# Altium footprint library Inductor_SMD.PcbLib: 259 footprints (part 4 of 17)
Each footprint in its own frame and in the unit in brackets; x right, y up, seen from the top. Pads: shape width x height; smd on the part's side, far side on the other; paste and mask are expansions set on the pad; w line width, h text height; cw(c..) or ccw(c..) is an arc to the next point about the centre after c.
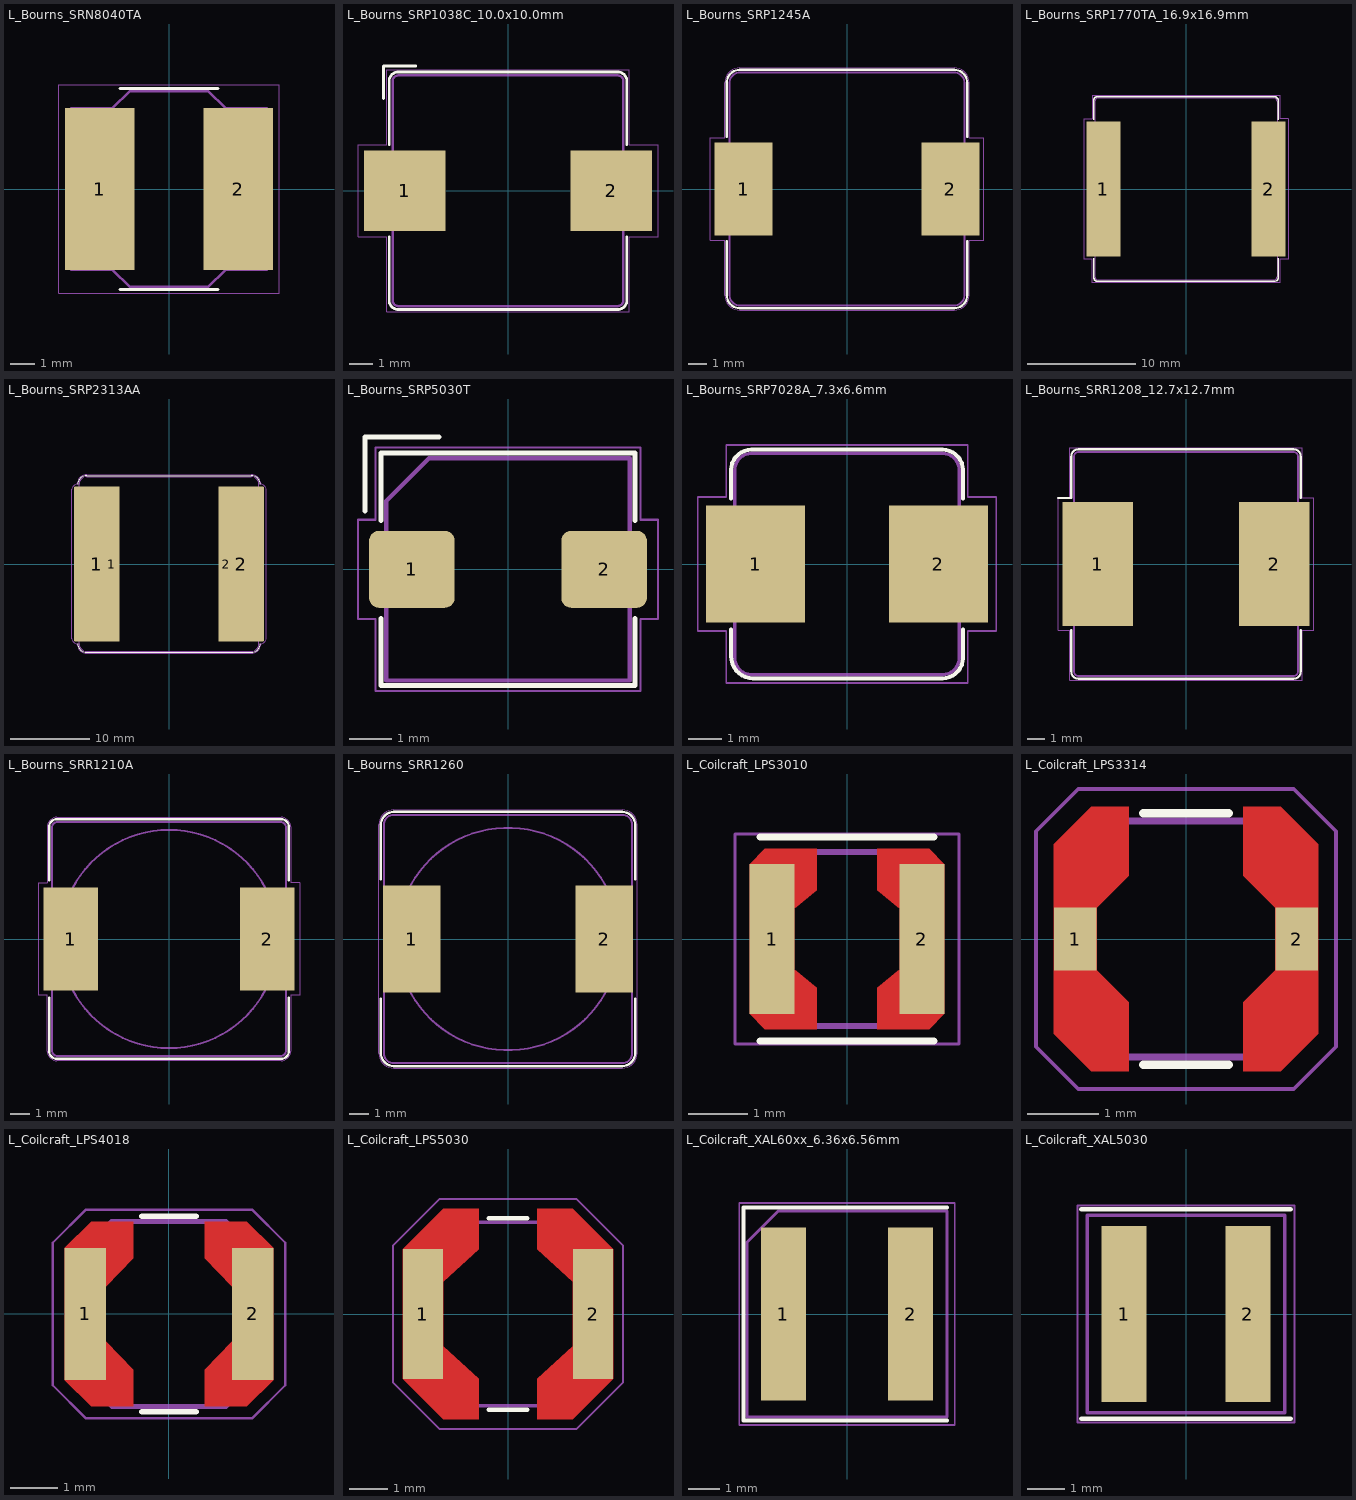
[diagram p3: the footprints below, top view; thin cyan lines are the x and y axes]

## L_Bourns_SRN8040TA [mm]
pads (2):
  rect 2.85x6.6 smd: 1(-2.825,0) 2(2.825,0)
F.SilkS:
  lines w0.12: -2,-4.1 2,-4.1 ; -2,4.1 2,4.1
F.CrtYd:
  lines w0.05: -4.5,-4.25 4.5,-4.25 4.5,4.25 -4.5,4.25 -4.5,-4.25
F.Fab:
  lines w0.1: -4,-3.3 -2.3,-3.3 -1.6,-4 1.6,-4 2.3,-3.3 4,-3.3 4,3.3 2.3,3.3 1.6,4 -1.6,4 -2.3,3.3 -4,3.3 -4,-3.3
  text "'.Designator'" at -4.047,-0.84 h1

## L_Bourns_SRP1038C_10.0x10.0mm [mm]
pads (2):
  rect 3.55x3.5 smd: 1(-4.475,0) 2(4.475,0)
F.SilkS:
  lines w0.12: -5.4,4 -5.4,5.4 -4,5.4 ; -5.15,-2 -5.15,-4.75 ccw(c-4.75,-4.75) -4.75,-5.15 4.75,-5.15 ccw(c4.75,-4.75) 5.15,-4.75 5.15,-2 ; -5.15,2 -5.15,4.75 cw(c-4.75,4.75) -4.75,5.15 4.75,5.15 cw(c4.75,4.75) 5.15,4.75 5.15,2
F.CrtYd:
  lines w0.05: -6.5,-2 -5.25,-2 -5.25,-5.25 5.25,-5.25 5.25,-2 6.5,-2 6.5,2 5.25,2 5.25,5.25 -5.25,5.25 -5.25,2 -6.5,2 -6.5,-2
F.Fab:
  lines w0.1: -5,-4.75 ccw(c-4.75,-4.75) -4.75,-5 4.75,-5 ccw(c4.75,-4.75) 5,-4.75 5,4.75 ccw(c4.75,4.75) 4.75,5 -4.75,5 ccw(c-4.75,4.75) -5,4.75 -5,-4.75
  text "'.Designator'" at -4.047,-0.84 h1

## L_Bourns_SRP1245A [mm]
pads (2):
  rect 3.1x5 smd: 1(-5.55,0) 2(5.55,0)
F.SilkS:
  lines w0.12: -6.45,-2.8 -6.45,-5.7 ccw(c-5.75,-5.7) -5.75,-6.4 5.75,-6.4 ccw(c5.75,-5.7) 6.45,-5.7 6.45,-2.8 ; -6.45,2.8 -6.45,5.75 ; -6.45,5.7 cw(c-5.75,5.7) -5.75,6.4 5.75,6.4 cw(c5.75,5.7) 6.45,5.7 6.45,2.8
F.CrtYd:
  lines w0.05: -7.35,-2.75 -6.55,-2.75 -6.55,-5.7 ccw(c-5.75,-5.7) -5.75,-6.5 5.75,-6.5 ccw(c5.75,-5.7) 6.55,-5.7 6.55,-2.75 7.35,-2.75 7.35,2.75 6.55,2.75 6.55,5.7 ccw(c5.75,5.7) 5.75,6.5 -5.75,6.5 ccw(c-5.75,5.7) -6.55,5.7 -6.55,2.75 -7.35,2.75 -7.35,-2.75
F.Fab:
  lines w0.1: -6.3,5.7 cw(c-5.75,5.7) -5.75,6.25 5.75,6.25 cw(c5.75,5.7) 6.3,5.7 6.3,-5.7 cw(c5.75,-5.7) 5.75,-6.25 -5.75,-6.25 cw(c-5.75,-5.7) -6.3,-5.7 -6.3,5.75
  text "'.Designator'" at -4.047,-0.84 h1

## L_Bourns_SRP1770TA_16.9x16.9mm [mm]
pads (2):
  rect 3.15x12.5 smd: 1(-7.675,0) 2(7.675,0)
F.SilkS:
  lines w0.12: -8.57,-8.23 ccw(c-8.2,-8.2) -8.2,-8.571 ; -8.57,-8.2 -8.57,-6.45 ; -8.57,6.45 -8.57,8.2 cw(c-8.2,8.2) -8.2,8.57 8.2,8.57 ; -8.2,-8.57 8.2,-8.57 ; 8.19,-8.57 ccw(c8.2,-8.2) 8.57,-8.2 8.57,-6.45 ; 8.209,8.57 cw(c8.2,8.2) 8.57,8.2 8.57,6.45
F.CrtYd:
  lines w0.05: -9.5,-6.5 -9.5,6.5 -8.7,6.5 -8.7,8.7 8.7,8.7 8.7,6.5 9.5,6.5 9.5,-6.5 8.7,-6.5 8.7,-8.7 -8.7,-8.7 -8.7,-6.5 -9.5,-6.5
F.Fab:
  lines w0.1: -8.45,-8.15 -8.45,8.15 cw(c-8.15,8.15) -8.15,8.45 8.15,8.45 cw(c8.15,8.15) 8.45,8.15 8.45,-8.15 cw(c8.15,-8.15) 8.15,-8.45 -8.15,-8.45 cw(c-8.15,-8.15) -8.45,-8.15
  text "'.Designator'" at -4.047,-0.84 h1

## L_Bourns_SRP2313AA [mm]
pads (4):
  rrect7% 5.75x19.6 smd: 1(-9.125,0) 2(9.125,0)
  rect 2x19.6 smd: 1(-7.25,0) 2(7.25,0)
F.SilkS:
  lines w0.12: -11.5,-10.05 ccw(c-10.4,-10.05) -10.4,-11.15 10.4,-11.15 ccw(c10.4,-10.05) 11.5,-10.05 ; -11.5,10.05 cw(c-10.4,10.05) -10.4,11.15 10.4,11.15 cw(c10.4,10.05) 11.5,10.05
F.CrtYd:
  lines w0.05: -12.25,-9.4 ccw(c-11.6,-9.4) -11.6,-10.05 ccw(c-10.4,-10.05) -10.4,-11.25 10.4,-11.25 ccw(c10.4,-10.05) 11.6,-10.05 ccw(c11.6,-9.4) 12.25,-9.4 12.25,9.4 ccw(c11.6,9.4) 11.6,10.05 ccw(c10.4,10.05) 10.4,11.25 -10.4,11.25 ccw(c-10.4,10.05) -11.6,10.05 ccw(c-11.6,9.4) -12.25,9.4 -12.25,-9.4
F.Fab:
  lines w0.1: -11.35,-10.05 ccw(c-10.4,-10.05) -10.4,-11 10.4,-11 ccw(c10.4,-10.05) 11.35,-10.05 11.35,10.05 ccw(c10.4,10.05) 10.4,11 -10.4,11 ccw(c-10.4,10.05) -11.35,10.05 -11.35,-10.05
  text "'.Designator'" at -4.047,-0.84 h1
3D body "L_Bourns_SRP2313AA.step": height 12.6, standoff 0, extent -11.75,-11 11.75,11

## L_Bourns_SRP5030T [mm]
pads (2):
  rrect25% 2x1.8 smd: 1(-2.25,0) 2(2.25,0)
F.SilkS:
  lines w0.12: -3.35,1.37 -3.35,3.1 -1.62,3.1 ; -2.97,-1.15 -2.97,-2.72 2.97,-2.72 2.97,-1.15 ; -2.97,1.15 -2.97,2.72 2.97,2.72 2.97,1.15
F.CrtYd:
  lines w0.05: -3.51,-1.16 -3.51,1.16 -3.1,1.16 -3.1,2.85 3.1,2.85 3.1,1.16 3.51,1.16 3.51,-1.16 3.1,-1.16 3.1,-2.85 -3.1,-2.85 -3.1,-1.16 -3.51,-1.16
F.Fab:
  lines w0.1: -2.85,-2.6 -2.85,1.6 -1.85,2.6 2.85,2.6 2.85,-2.6 -2.85,-2.6
  text "'.Designator'" at -4.047,-0.84 h1

## L_Bourns_SRP7028A_7.3x6.6mm [mm]
pads (2):
  rect 2.95x3.5 smd: 1(-2.725,0) 2(2.725,0)
F.SilkS:
  lines w0.12: -3.46,-1.95 -3.46,-2.75 ccw(c-2.8,-2.75) -2.8,-3.41 2.85,-3.41 ccw(c2.85,-2.8) 3.46,-2.8 3.46,-1.95 ; -3.46,1.95 -3.46,2.8 cw(c-2.85,2.8) -2.85,3.41 2.85,3.41 cw(c2.85,2.8) 3.46,2.8 3.46,1.95
F.CrtYd:
  lines w0.05: -4.45,-2 -4.45,2 -3.6,2 -3.6,3.55 3.6,3.55 3.6,2 4.45,2 4.45,-2 3.6,-2 3.6,-3.55 -3.6,-3.55 -3.6,-2 -4.45,-2
F.Fab:
  lines w0.1: -3.35,-2.8 -3.35,2.8 cw(c-2.85,2.8) -2.85,3.3 2.85,3.3 cw(c2.85,2.8) 3.35,2.8 3.35,-2.8 cw(c2.85,-2.8) 2.85,-3.3 -2.85,-3.3 cw(c-2.85,-2.8) -3.35,-2.8
  text "'.Designator'" at -4.047,-0.84 h1

## L_Bourns_SRR1208_12.7x12.7mm [mm]
pads (2):
  rect 4x7 smd: 1(-5,0) 2(5,0)
F.SilkS:
  lines w0.12: -7.25,3.75 -6.5,3.75 -6.5,6.1 cw(c-6.1,6.1) -6.1,6.5 6.1,6.5 cw(c6.1,6.1) 6.5,6.1 6.5,3.75 ; -6.5,-3.75 -6.5,-6.1 ccw(c-6.1,-6.1) -6.1,-6.5 6.1,-6.5 ccw(c6.1,-6.1) 6.5,-6.1 6.5,-3.75
F.CrtYd:
  lines w0.05: -7.25,-3.75 -6.6,-3.75 -6.6,-6.6 6.6,-6.6 6.6,-3.75 7.25,-3.75 7.25,3.75 6.6,3.75 6.6,6.6 -6.6,6.6 -6.6,3.75 -7.25,3.75 -7.25,-3.75
F.Fab:
  lines w0.1: -6.35,-1.2 -5.15,0 -6.35,1.2 ; -6.35,-6.1 ccw(c-6.1,-6.1) -6.1,-6.35 6.1,-6.35 ccw(c6.1,-6.1) 6.35,-6.1 6.35,6.1 ccw(c6.1,6.1) 6.1,6.35 -6.1,6.35 ccw(c-6.1,6.1) -6.35,6.1 -6.35,-6.1
  text "'.Designator'" at -4.047,-0.84 h1

## L_Bourns_SRR1210A [mm]
pads (2):
  rect 2.8x5.3 smd: 1(-5.05,0) 2(5.05,0)
F.SilkS:
  lines w0.12: -6.15,-3 -6.15,-5.75 ccw(c-5.75,-5.75) -5.75,-6.15 5.75,-6.15 ccw(c5.75,-5.75) 6.15,-5.75 6.15,-3 ; -6.15,3 -6.15,5.75 cw(c-5.75,5.75) -5.75,6.15 5.75,6.15 cw(c5.75,5.75) 6.15,5.75 6.15,3
F.CrtYd:
  lines w0.05: -6.7,-2.9 -6.25,-2.9 -6.25,-5.75 ccw(c-5.75,-5.75) -5.75,-6.25 5.75,-6.25 ccw(c5.75,-5.75) 6.25,-5.75 6.25,-2.9 6.7,-2.9 6.7,2.9 6.25,2.9 6.25,5.75 ccw(c5.75,5.75) 5.75,6.25 -5.75,6.25 ccw(c-5.75,5.75) -6.25,5.75 -6.25,2.9 -6.7,2.9 -6.7,-2.9
F.Fab:
  circle w0.1: c0,0 r5.6
  lines w0.1: -4,-2 -4,2 ; 4,-2 4,2 ; -6,-5.75 -6,5.75 cw(c-5.75,5.75) -5.75,6 5.75,6 cw(c5.75,5.75) 6,5.75 6,-5.75 cw(c5.75,-5.75) 5.75,-6 -5.75,-6 cw(c-5.75,-5.75) -6,-5.75
  text "'.Designator'" at -4.047,-0.84 h1

## L_Bourns_SRR1260 [mm]
pads (2):
  rect 2.9x5.4 smd: 1(-4.85,0) 2(4.85,0)
F.SilkS:
  lines w0.12: -6.4,-3 -6.4,-5.75 ccw(c-5.75,-5.75) -5.75,-6.4 5.75,-6.4 ccw(c5.75,-5.75) 6.4,-5.75 6.4,-3 ; -6.4,3 -6.4,5.75 cw(c-5.75,5.75) -5.75,6.4 5.75,6.4 cw(c5.75,5.75) 6.4,5.75 6.4,3
F.CrtYd:
  lines w0.05: -6.5,-5.75 ccw(c-5.75,-5.75) -5.75,-6.5 5.75,-6.5 ccw(c5.75,-5.75) 6.5,-5.75 6.5,5.75 ccw(c5.75,5.75) 5.75,6.5 -5.75,6.5 ccw(c-5.75,5.75) -6.5,5.75 -6.5,-5.75
F.Fab:
  circle w0.1: c0,0 r5.6
  lines w0.1: -4,-2 -4,2 ; 4,-2 4,2 ; -6.25,-5.75 ccw(c-5.75,-5.75) -5.75,-6.25 5.75,-6.25 ccw(c5.75,-5.75) 6.25,-5.75 6.25,5.75 ccw(c5.75,5.75) 5.75,6.25 -5.75,6.25 ccw(c-5.75,5.75) -6.25,5.75 -6.25,-5.75
  text "'.Designator'" at -4.047,-0.84 h1
3D body "L_Bourns_SRR1260.step": height 6, standoff 0, extent -6.25,-6.25 6.25,6.25

## L_Coilcraft_LPS3010 [mm]
pads (2):
  rect 0.76x2.54 smd: 1(-1.27,0) 2(1.27,0)
F.Cu:
  region: -0.51,0.825 -0.89,0.51 -0.89,-0.51 -0.51,-0.825 -0.51,-1.525 -1.395,-1.525 -1.65,-1.27 -1.65,1.27 -1.395,1.525 -0.51,1.525
  region: 1.65,1.27 1.65,-1.27 1.395,-1.525 0.51,-1.525 0.51,-0.825 0.89,-0.51 0.89,0.51 0.51,0.825 0.51,1.525 1.395,1.525
F.SilkS:
  lines w0.12: -1.475,-1.725 1.475,-1.725 ; -1.475,1.725 1.475,1.725
F.Paste:
  region: -0.51,0.825 -0.89,0.51 -0.89,-0.51 -0.51,-0.825 -0.51,-1.525 -1.395,-1.525 -1.65,-1.27 -1.65,1.27 -1.395,1.525 -0.51,1.525
  region: 1.65,1.27 1.65,-1.27 1.395,-1.525 0.51,-1.525 0.51,-0.825 0.89,-0.51 0.89,0.51 0.51,0.825 0.51,1.525 1.395,1.525
F.Mask:
  region: -0.51,0.825 -0.89,0.51 -0.89,-0.51 -0.51,-0.825 -0.51,-1.525 -1.395,-1.525 -1.65,-1.27 -1.65,1.27 -1.395,1.525 -0.51,1.525
  region: 1.65,1.27 1.65,-1.27 1.395,-1.525 0.51,-1.525 0.51,-0.825 0.89,-0.51 0.89,0.51 0.51,0.825 0.51,1.525 1.395,1.525
F.CrtYd:
  lines w0.05: -1.9,-1.78 1.9,-1.78 1.9,1.78 -1.9,1.78 -1.9,-1.78
F.Fab:
  lines w0.1: -1.475,-1.275 -1.275,-1.475 1.275,-1.475 1.475,-1.275 1.475,1.275 1.275,1.475 -1.275,1.475 -1.475,1.275 -1.475,-1.275
  text "'.Designator'" at -2.828,-0.583 h0.7

## L_Coilcraft_LPS3314 [mm]
pads (2):
  rect 0.6x0.881 smd: 1(-1.55,0) 2(1.55,0)
F.Cu:
  region: -0.8,0.885 -1.25,0.44 -1.25,-0.44 -0.8,-0.885 -0.8,-1.85 -1.325,-1.85 -1.85,-1.325 -1.85,1.325 -1.325,1.85 -0.8,1.85
  region: 1.85,1.325 1.85,-1.325 1.325,-1.85 0.8,-1.85 0.8,-0.885 1.25,-0.44 1.25,0.44 0.8,0.885 0.8,1.85 1.325,1.85
F.SilkS:
  lines w0.12: -0.6,-1.76 0.6,-1.76 ; -0.6,1.76 0.6,1.76
F.Paste:
  region: -0.8,0.885 -1.25,0.44 -1.25,-0.44 -0.8,-0.885 -0.8,-1.85 -1.325,-1.85 -1.85,-1.325 -1.85,1.325 -1.325,1.85 -0.8,1.85
  region: 1.85,1.325 1.85,-1.325 1.325,-1.85 0.8,-1.85 0.8,-0.885 1.25,-0.44 1.25,0.44 0.8,0.885 0.8,1.85 1.325,1.85
F.Mask:
  region: -0.8,0.885 -1.25,0.44 -1.25,-0.44 -0.8,-0.885 -0.8,-1.85 -1.325,-1.85 -1.85,-1.325 -1.85,1.325 -1.325,1.85 -0.8,1.85
  region: 1.85,1.325 1.85,-1.325 1.325,-1.85 0.8,-1.85 0.8,-0.885 1.25,-0.44 1.25,0.44 0.8,0.885 0.8,1.85 1.325,1.85
F.CrtYd:
  lines w0.05: -2.1,-1.51 -2.1,1.51 -1.51,2.1 1.51,2.1 2.1,1.51 2.1,-1.51 1.51,-2.1 -1.51,-2.1 -2.1,-1.51
F.Fab:
  lines w0.1: -1.65,-0.95 -1.65,0.95 -0.95,1.65 0.95,1.65 1.65,0.95 1.65,-0.95 0.95,-1.65 -0.95,-1.65 -1.65,-0.95
  text "'.Designator'" at -3.237,-0.672 h0.8

## L_Coilcraft_LPS4018 [mm]
pads (2):
  rect 0.87x2.79 smd: 1(-1.765,0) 2(1.765,0)
F.Cu:
  region: -0.75,1.17 -1.33,0.575 -1.33,-0.575 -0.75,-1.17 -0.75,-1.945 -1.64,-1.945 -2.2,-1.395 -2.2,1.395 -1.64,1.945 -0.75,1.945
  region: 2.2,1.395 2.2,-1.395 1.64,-1.945 0.75,-1.945 0.75,-1.17 1.33,-0.575 1.33,0.575 0.75,1.17 0.75,1.945 1.64,1.945
F.SilkS:
  lines w0.12: -0.57,-2.06 0.57,-2.06 ; -0.57,2.06 0.57,2.06
F.Paste:
  region: -0.75,1.17 -1.33,0.575 -1.33,-0.575 -0.75,-1.17 -0.75,-1.945 -1.64,-1.945 -2.2,-1.395 -2.2,1.395 -1.64,1.945 -0.75,1.945
  region: 2.2,1.395 2.2,-1.395 1.64,-1.945 0.75,-1.945 0.75,-1.17 1.33,-0.575 1.33,0.575 0.75,1.17 0.75,1.945 1.64,1.945
F.Mask:
  region: -0.75,1.17 -1.33,0.575 -1.33,-0.575 -0.75,-1.17 -0.75,-1.945 -1.64,-1.945 -2.2,-1.395 -2.2,1.395 -1.64,1.945 -0.75,1.945
  region: 2.2,1.395 2.2,-1.395 1.64,-1.945 0.75,-1.945 0.75,-1.17 1.33,-0.575 1.33,0.575 0.75,1.17 0.75,1.945 1.64,1.945
F.CrtYd:
  lines w0.05: -2.45,-1.5 -1.75,-2.2 1.75,-2.2 2.45,-1.5 2.45,1.5 1.75,2.2 -1.75,2.2 -2.45,1.5 -2.45,-1.5
F.Fab:
  lines w0.1: -1.21,1.95 -1.95,1.2 -1.95,-1.2 -1.2,-1.95 1.2,-1.95 1.95,-1.2 1.95,1.2 1.2,1.95 -1.2,1.95
  text "'.Designator'" at -3.237,-0.672 h0.8

## L_Coilcraft_LPS5030 [mm]
pads (2):
  rect 1.055x3.4 smd: 1(-2.228,0) 2(2.228,0)
F.Cu:
  region: -0.76,1.7 -1.7,0.844 -1.7,-0.844 -0.76,-1.7 -0.76,-2.755 -1.7,-2.755 -2.755,-1.7 -2.755,1.7 -1.7,2.755 -0.76,2.755
  region: 2.755,1.7 2.755,-1.7 1.7,-2.755 0.76,-2.755 0.76,-1.7 1.7,-0.844 1.7,0.844 0.76,1.7 0.76,2.755 1.7,2.755
F.SilkS:
  lines w0.12: -0.5,-2.51 0.5,-2.51 ; -0.5,2.51 0.5,2.51
F.Paste:
  region: -0.76,1.7 -1.7,0.844 -1.7,-0.844 -0.76,-1.7 -0.76,-2.755 -1.7,-2.755 -2.755,-1.7 -2.755,1.7 -1.7,2.755 -0.76,2.755
  region: 2.755,1.7 2.755,-1.7 1.7,-2.755 0.76,-2.755 0.76,-1.7 1.7,-0.844 1.7,0.844 0.76,1.7 0.76,2.755 1.7,2.755
F.Mask:
  region: -0.76,1.7 -1.7,0.844 -1.7,-0.844 -0.76,-1.7 -0.76,-2.755 -1.7,-2.755 -2.755,-1.7 -2.755,1.7 -1.7,2.755 -0.76,2.755
  region: 2.755,1.7 2.755,-1.7 1.7,-2.755 0.76,-2.755 0.76,-1.7 1.7,-0.844 1.7,0.844 0.76,1.7 0.76,2.755 1.7,2.755
F.CrtYd:
  lines w0.05: -3.01,-1.8 -1.8,-3.01 1.8,-3.01 3.01,-1.8 3.01,1.8 1.8,3.01 -1.8,3.01 -3.01,1.8 -3.01,-1.8
F.Fab:
  lines w0.1: -2.4,-1.4 -2.4,1.4 -1.4,2.4 1.4,2.4 2.4,1.4 2.4,-1.4 1.4,-2.4 -1.4,-2.4 -2.4,-1.4
  text "'.Designator'" at -4.047,-0.84 h1

## L_Coilcraft_XAL60xx_6.36x6.56mm [mm]
pads (2):
  rect 1.43x5.5 smd: 1(-2.02,0) 2(2.02,0)
F.SilkS:
  lines w0.12: 3.18,-3.39 -3.29,-3.39 -3.29,3.39 3.18,3.39
F.CrtYd:
  lines w0.05: -3.43,-3.53 -3.43,3.53 3.43,3.53 3.43,-3.53 -3.43,-3.53
F.Fab:
  lines w0.1: -3.18,-3.28 3.18,-3.28 3.18,3.28 -2.18,3.28 -3.18,2.28 -3.18,-3.28
  text "'.Designator'" at -4.047,-0.84 h1

## L_Coilcraft_XAL5030 [mm]
pads (2):
  rect 1.2x4.7 smd: 1(-1.655,0) 2(1.655,0)
F.SilkS:
  lines w0.12: -2.794,-2.794 2.794,-2.794 ; -2.794,2.794 2.794,2.794
F.CrtYd:
  lines w0.05: -2.9,-2.9 2.9,-2.9 2.9,2.9 -2.9,2.9 -2.9,-2.9
F.Fab:
  lines w0.1: -2.64,-2.64 -2.64,2.64 2.64,2.64 2.64,-2.64 -2.64,-2.64
  text "'.Designator'" at -4.047,-0.84 h1